# Altium footprint library Connector_Audio.PcbLib: 212 footprints (part 12 of 14)
Each footprint in its own frame and in the unit in brackets; x right, y up, seen from the top. Pads: shape width x height; smd on the part's side, far side on the other; paste and mask are expansions set on the pad; w line width, h text height; cw(c..) or ccw(c..) is an arc to the next point about the centre after c.
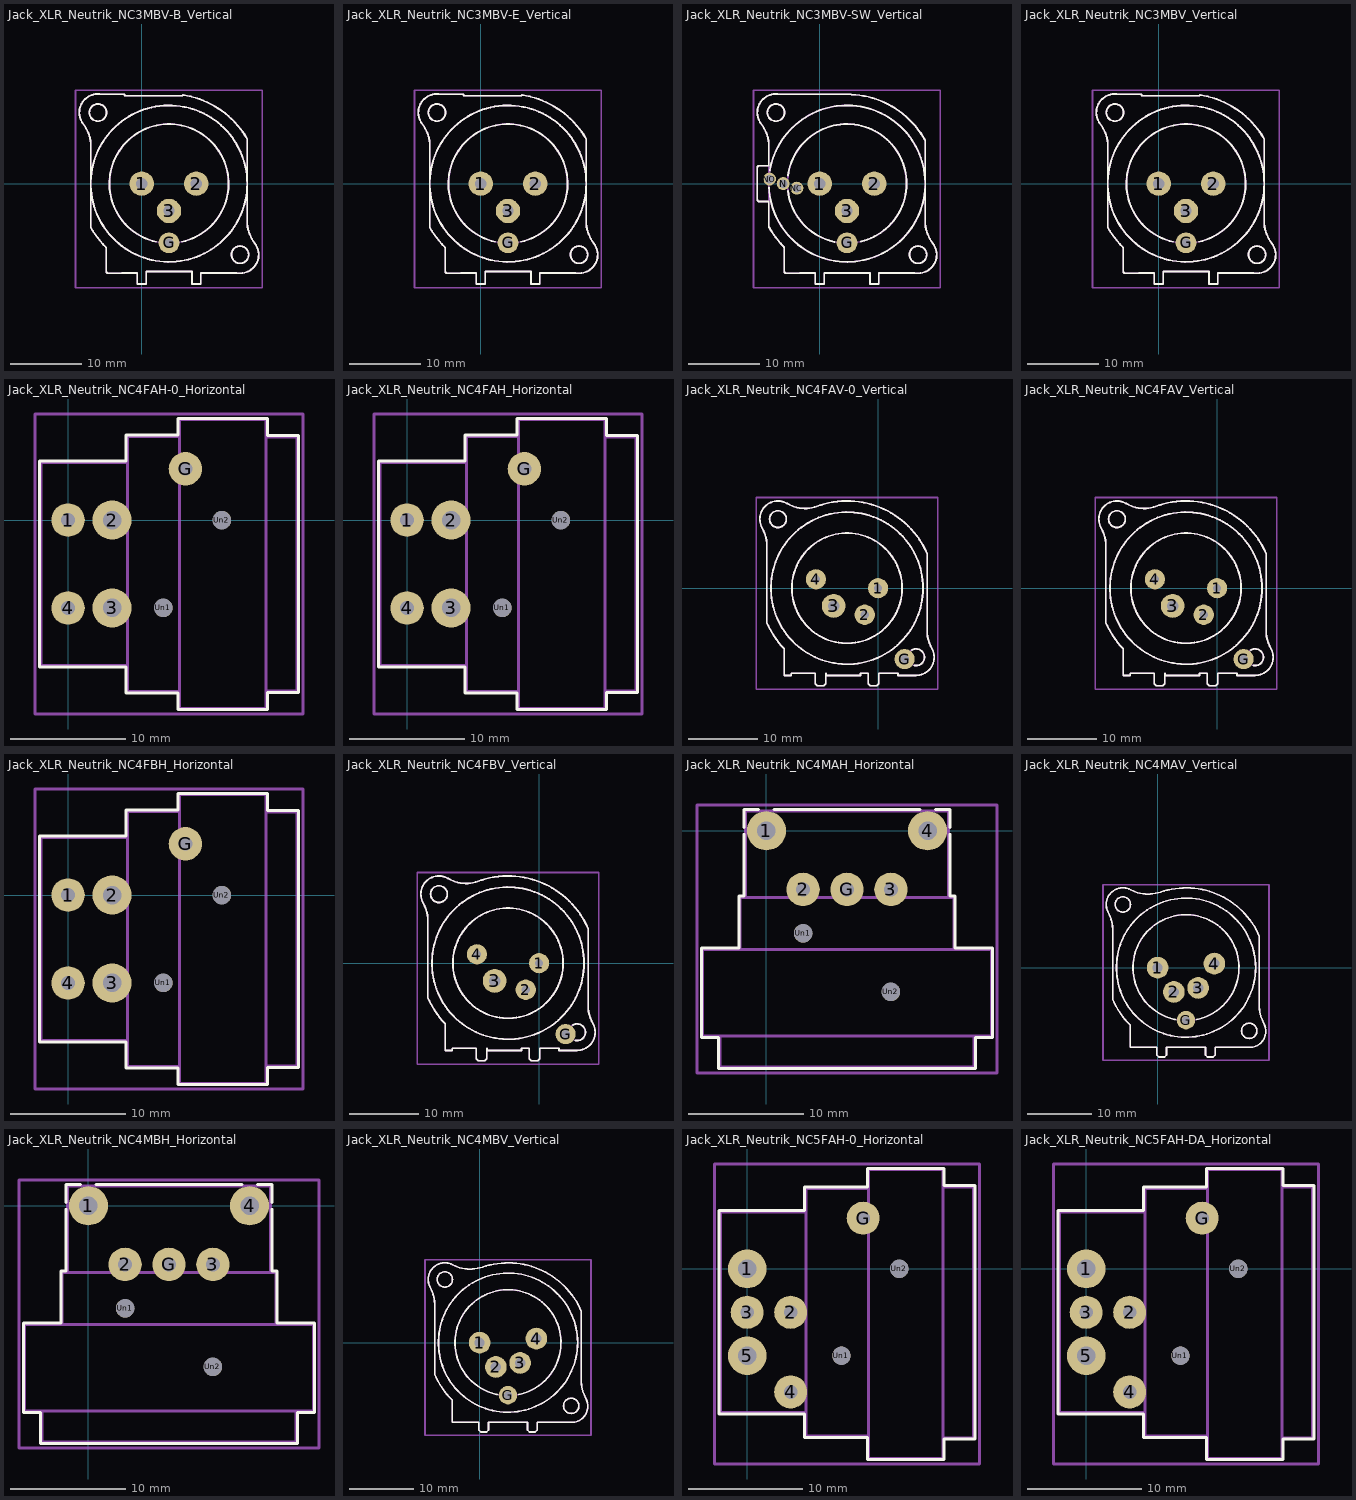
[diagram p11: the footprints below, top view; thin cyan lines are the x and y axes]

## Jack_XLR_Neutrik_NC3MBV-B_Vertical [mm]
pads (4):
  round 3.4 hole 1.6: 1(0,0) 2(7.62,0) 3(3.81,-3.81)
  round 2.9 hole 1.2: G(3.81,-8.25)
F.SilkS:
  circle w0.254: c13.71,-9.9 r1.2
  circle w0.254: c3.81,0 r10.9
  circle w0.254: c-6.09,9.9 r1.2
  lines w0.254: -8.145,8.311 cw(c-12.09,5.24) -7.09,5.24 -7.09,-6.11 ccw(c3.77,0.06) -5,-8.834 ; -8.141,8.308 cw(c-6.09,9.9) -5.6,12.45 -2.43,12.45 -2.32,12.25 5.68,12.25 5.74,12.35 ; -5,-8.832 cw(c-5.14,-8.975) -4.94,-8.98 -4.94,-12.2 ccw(c-4.64,-12.2) -4.64,-12.5 -2.74,-12.5 -2.74,-12.45 -0.62,-12.45 -0.62,-14 0.63,-14 0.63,-12.25 7,-12.25 7,-14 8.24,-14 8.24,-12.45 13.22,-12.45 ccw(c13.71,-9.9) 15.761,-8.308 ; 2,-8.1 cw(c3.81,0) 5.621,-8.1 ; 5.753,12.354 cw(c3.83,-0.06) 14.71,6.22 14.71,-5.24 ccw(c19.71,-5.24) 15.765,-8.311
Top Assembly:
  circle w0.254: c13.71,-9.9 r1.2
  circle w0.254: c3.81,0 r10.9
  circle w0.254: c3.81,0 r8.3
  circle w0.254: c-6.09,9.9 r1.2
  lines w0.254: -8.145,8.311 cw(c-12.09,5.24) -7.09,5.24 -7.09,-6.11 ccw(c3.77,0.06) -5,-8.834 ; -8.141,8.308 cw(c-6.09,9.9) -5.6,12.45 -2.43,12.45 -2.32,12.25 5.68,12.25 5.74,12.35 ; -5,-8.832 cw(c-5.14,-8.975) -4.94,-8.98 -4.94,-12.2 ccw(c-4.64,-12.2) -4.64,-12.5 -2.74,-12.5 -2.74,-12.45 -0.62,-12.45 -0.62,-14 0.63,-14 0.63,-12.25 7,-12.25 7,-14 8.24,-14 8.24,-12.45 13.22,-12.45 ccw(c13.71,-9.9) 15.761,-8.308 ; 5.753,12.354 cw(c3.83,-0.06) 14.71,6.22 14.71,-5.24 ccw(c19.71,-5.24) 15.765,-8.311
  text "'.Designator'" at -0.237,0.16 h1
Top Courtyard:
  lines w0.254: -9.2,-14.5 16.8,-14.5 16.8,13 -9.2,13 -9.2,-14.5
Top Designator:
  text ".Designator" at -3.818,-1.258 h1.52

## Jack_XLR_Neutrik_NC3MBV-E_Vertical [mm]
pads (4):
  round 3.4 hole 1.6: 1(0,0) 2(7.62,0) 3(3.81,-3.81)
  round 2.9 hole 1.2: G(3.81,-8.25)
F.SilkS:
  circle w0.254: c13.71,-9.9 r1.2
  circle w0.254: c3.81,0 r10.9
  circle w0.254: c-6.09,9.9 r1.2
  lines w0.254: -8.145,8.311 cw(c-12.09,5.24) -7.09,5.24 -7.09,-6.11 ccw(c3.77,0.06) -5,-8.834 ; -8.141,8.308 cw(c-6.09,9.9) -5.6,12.45 -2.43,12.45 -2.32,12.25 5.68,12.25 5.74,12.35 ; -5,-8.832 cw(c-5.14,-8.975) -4.94,-8.98 -4.94,-12.2 ccw(c-4.64,-12.2) -4.64,-12.5 -2.74,-12.5 -2.74,-12.45 -0.62,-12.45 -0.62,-14 0.63,-14 0.63,-12.25 7,-12.25 7,-14 8.24,-14 8.24,-12.45 13.22,-12.45 ccw(c13.71,-9.9) 15.761,-8.308 ; 2,-8.1 cw(c3.81,0) 5.621,-8.1 ; 5.753,12.354 cw(c3.83,-0.06) 14.71,6.22 14.71,-5.24 ccw(c19.71,-5.24) 15.765,-8.311
Top Assembly:
  circle w0.254: c13.71,-9.9 r1.2
  circle w0.254: c3.81,0 r10.9
  circle w0.254: c3.81,0 r8.3
  circle w0.254: c-6.09,9.9 r1.2
  lines w0.254: -8.145,8.311 cw(c-12.09,5.24) -7.09,5.24 -7.09,-6.11 ccw(c3.77,0.06) -5,-8.834 ; -8.141,8.308 cw(c-6.09,9.9) -5.6,12.45 -2.43,12.45 -2.32,12.25 5.68,12.25 5.74,12.35 ; -5,-8.832 cw(c-5.14,-8.975) -4.94,-8.98 -4.94,-12.2 ccw(c-4.64,-12.2) -4.64,-12.5 -2.74,-12.5 -2.74,-12.45 -0.62,-12.45 -0.62,-14 0.63,-14 0.63,-12.25 7,-12.25 7,-14 8.24,-14 8.24,-12.45 13.22,-12.45 ccw(c13.71,-9.9) 15.761,-8.308 ; 5.753,12.354 cw(c3.83,-0.06) 14.71,6.22 14.71,-5.24 ccw(c19.71,-5.24) 15.765,-8.311
  text "'.Designator'" at -0.237,0.16 h1
Top Courtyard:
  lines w0.254: -9.2,-14.5 16.8,-14.5 16.8,13 -9.2,13 -9.2,-14.5
Top Designator:
  text ".Designator" at -3.818,-1.258 h1.52

## Jack_XLR_Neutrik_NC3MBV-SW_Vertical [mm]
pads (7):
  round 3.4 hole 1.6: 1(0,0) 2(7.62,0) 3(3.81,-3.81)
  round 2.9 hole 1.2: G(3.81,-8.25)
  round 1.8 hole 1.2: N(-5.08,0) NC(-3.175,-0.635) NO(-6.985,0.635)
F.SilkS:
  circle w0.254: c13.71,-9.9 r1.2
  circle w0.254: c-6.09,9.9 r1.2
  lines w0.254: -8.145,8.311 cw(c-12.09,5.24) -7.09,5.24 -7.09,2.5 -8.39,2.5 ccw(c-8.39,2.2) -8.69,2.2 -8.69,-2.2 ccw(c-8.39,-2.2) -8.39,-2.5 -7.09,-2.5 -7.09,-5.96 ccw(c-6.84,-5.94) -7.049,-6.079 ; -8.141,8.308 cw(c-6.09,9.9) -5.6,12.45 3.81,12.45 ; -7.078,-0.512 ccw(c3.81,0) -6.94,1.8 ; -7.06,-6.06 ccw(c3.81,0) -5.015,-8.775 ; -5.008,-8.782 cw(c-5.175,-8.95) -4.94,-8.92 -4.94,-12.2 ccw(c-4.64,-12.2) -4.64,-12.5 -2.74,-12.5 -2.74,-12.45 -0.62,-12.45 -0.62,-14 0.63,-14 0.63,-12.45 7,-12.45 7,-14 8.24,-14 8.24,-12.45 13.22,-12.45 ccw(c13.71,-9.9) 15.761,-8.308 ; -4.431,-1.008 ccw(c3.81,0) 2.08,-8.12 ; -4.42,1.09 cw(c3.81,0) 5.742,-8.074 ; 3.793,12.45 cw(c3.81,0) 14.68,6.07 cw(c14.49,5.96) 14.71,5.96 14.71,-5.24 ccw(c19.71,-5.24) 15.765,-8.311
Top Assembly:
  circle w0.254: c13.71,-9.9 r1.2
  circle w0.254: c3.81,0 r10.9
  circle w0.254: c3.81,0 r8.3
  circle w0.254: c-6.09,9.9 r1.2
  lines w0.254: -8.145,8.311 cw(c-12.09,5.24) -7.09,5.24 -7.09,-5.96 ccw(c-6.84,-5.94) -7.049,-6.079 ; -8.141,8.308 cw(c-6.09,9.9) -5.6,12.45 3.81,12.45 ; -7.09,-2.5 -8.39,-2.5 cw(c-8.39,-2.2) -8.69,-2.2 -8.69,2.2 cw(c-8.39,2.2) -8.39,2.5 -7.09,2.5 ; -7.06,-6.06 ccw(c3.81,0) -5.015,-8.775 ; -5.008,-8.782 cw(c-5.175,-8.95) -4.94,-8.92 -4.94,-12.2 ccw(c-4.64,-12.2) -4.64,-12.5 -2.74,-12.5 -2.74,-12.45 -0.62,-12.45 -0.62,-14 0.63,-14 0.63,-12.45 7,-12.45 7,-14 8.24,-14 8.24,-12.45 13.22,-12.45 ccw(c13.71,-9.9) 15.761,-8.308 ; 3.793,12.45 cw(c3.81,0) 14.68,6.07 cw(c14.49,5.96) 14.71,5.96 14.71,-5.24 ccw(c19.71,-5.24) 15.765,-8.311
  text "'.Designator'" at -0.237,0.16 h1
Top Courtyard:
  lines w0.254: -9.2,-14.5 16.8,-14.5 16.8,13 -9.2,13 -9.2,-14.5
Top Designator:
  text ".Designator" at -3.818,-1.258 h1.52

## Jack_XLR_Neutrik_NC3MBV_Vertical [mm]
pads (4):
  round 3.4 hole 1.6: 1(0,0) 2(7.62,0) 3(3.81,-3.81)
  round 2.9 hole 1.2: G(3.81,-8.25)
F.SilkS:
  circle w0.254: c13.71,-9.9 r1.2
  circle w0.254: c3.81,0 r10.9
  circle w0.254: c-6.09,9.9 r1.2
  lines w0.254: -8.145,8.311 cw(c-12.09,5.24) -7.09,5.24 -7.09,-6.11 ccw(c3.77,0.06) -5,-8.834 ; -8.141,8.308 cw(c-6.09,9.9) -5.6,12.45 -2.43,12.45 -2.32,12.25 5.68,12.25 5.74,12.35 ; -5,-8.832 cw(c-5.14,-8.975) -4.94,-8.98 -4.94,-12.2 ccw(c-4.64,-12.2) -4.64,-12.5 -2.74,-12.5 -2.74,-12.45 -0.62,-12.45 -0.62,-14 0.63,-14 0.63,-12.25 7,-12.25 7,-14 8.24,-14 8.24,-12.45 13.22,-12.45 ccw(c13.71,-9.9) 15.761,-8.308 ; 2,-8.1 cw(c3.81,0) 5.621,-8.1 ; 5.753,12.354 cw(c3.83,-0.06) 14.71,6.22 14.71,-5.24 ccw(c19.71,-5.24) 15.765,-8.311
Top Assembly:
  circle w0.254: c13.71,-9.9 r1.2
  circle w0.254: c3.81,0 r10.9
  circle w0.254: c3.81,0 r8.3
  circle w0.254: c-6.09,9.9 r1.2
  lines w0.254: -8.145,8.311 cw(c-12.09,5.24) -7.09,5.24 -7.09,-6.11 ccw(c3.77,0.06) -5,-8.834 ; -8.141,8.308 cw(c-6.09,9.9) -5.6,12.45 -2.43,12.45 -2.32,12.25 5.68,12.25 5.74,12.35 ; -5,-8.832 cw(c-5.14,-8.975) -4.94,-8.98 -4.94,-12.2 ccw(c-4.64,-12.2) -4.64,-12.5 -2.74,-12.5 -2.74,-12.45 -0.62,-12.45 -0.62,-14 0.63,-14 0.63,-12.25 7,-12.25 7,-14 8.24,-14 8.24,-12.45 13.22,-12.45 ccw(c13.71,-9.9) 15.761,-8.308 ; 5.753,12.354 cw(c3.83,-0.06) 14.71,6.22 14.71,-5.24 ccw(c19.71,-5.24) 15.765,-8.311
  text "'.Designator'" at -0.237,0.16 h1
Top Courtyard:
  lines w0.254: -9.2,-14.5 16.8,-14.5 16.8,13 -9.2,13 -9.2,-14.5
Top Designator:
  text ".Designator" at -3.818,-1.258 h1.52

## Jack_XLR_Neutrik_NC4FAH-0_Horizontal [mm]
pads (7):
  round 2.9 hole 1.2: 1(0,0) 4(0,-7.62) G(10.17,4.44)
  round 3.4 hole 1.6: 2(3.815,0) 3(3.815,-7.62)
  round 1.6 hole 1.6: Un1(8.26,-7.62) Un2(13.34,0)
F.SilkS:
  lines w0.254: -2.47,-12.73 5.03,-12.73 5.03,-14.98 9.53,-14.98 9.53,-16.43 17.27,-16.43 17.27,-14.93 19.97,-14.93 19.97,7.31 17.27,7.31 17.27,8.81 9.53,8.81 9.53,7.36 5.03,7.36 5.03,5.11 -2.47,5.11 -2.47,-12.73
Top Assembly:
  lines w0.254: 5.15,-12.61 -2.35,-12.61 -2.35,4.99 5.15,4.99 ; 9.65,-14.86 5.15,-14.86 5.15,7.24 9.65,7.24 ; 17.15,-14.81 19.85,-14.81 19.85,7.19 17.15,7.19 ; 9.65,-16.31 17.15,-16.31 17.15,8.69 9.65,8.69 9.65,-16.31
  text "'.Designator'" at 10.753,-4.65 h1
Top Courtyard:
  lines w0.254: -2.85,-16.81 20.35,-16.81 20.35,9.19 -2.85,9.19 -2.85,-16.81
Top Designator:
  text ".Designator" at 1.132,-4.318 h1.52
Dwgs.User:
  lines w0.254: 17.15,-16.31 17.15,8.69

## Jack_XLR_Neutrik_NC4FAH_Horizontal [mm]
pads (7):
  round 2.9 hole 1.2: 1(0,0) 4(0,-7.62) G(10.17,4.44)
  round 3.4 hole 1.6: 2(3.815,0) 3(3.815,-7.62)
  round 1.6 hole 1.6: Un1(8.26,-7.62) Un2(13.34,0)
F.SilkS:
  lines w0.254: -2.47,-12.73 5.03,-12.73 5.03,-14.98 9.53,-14.98 9.53,-16.43 17.27,-16.43 17.27,-14.93 19.97,-14.93 19.97,7.31 17.27,7.31 17.27,8.81 9.53,8.81 9.53,7.36 5.03,7.36 5.03,5.11 -2.47,5.11 -2.47,-12.73
Top Assembly:
  lines w0.254: 5.15,-12.61 -2.35,-12.61 -2.35,4.99 5.15,4.99 ; 9.65,-14.86 5.15,-14.86 5.15,7.24 9.65,7.24 ; 17.15,-14.81 19.85,-14.81 19.85,7.19 17.15,7.19 ; 9.65,-16.31 17.15,-16.31 17.15,8.69 9.65,8.69 9.65,-16.31
  text "'.Designator'" at 10.753,-4.65 h1
Top Courtyard:
  lines w0.254: -2.85,-16.81 20.35,-16.81 20.35,9.19 -2.85,9.19 -2.85,-16.81
Top Designator:
  text ".Designator" at 1.132,-4.318 h1.52
Dwgs.User:
  lines w0.254: 17.15,-16.31 17.15,8.69

## Jack_XLR_Neutrik_NC4FAV-0_Vertical [mm]
pads (5):
  round 2.9 hole 1.2: 1(0,0) 2(-1.91,-3.81) 4(-8.9,1.27) G(3.805,-10.16)
  round 3.4 hole 1.6: 3(-6.355,-2.54)
F.SilkS:
  circle w0.254: c-4.45,0 r10.9
  circle w0.254: c-4.45,0 r7.9
  circle w0.254: c-14.35,9.9 r1.2
  lines w0.254: -16.606,8.614 cw(c-14.35,9.9) -13.02,12.13 ccw(c-10.47,16.43) -8.766,11.73 ; -16.602,8.609 cw(c-20.95,6.14) -15.95,6.13 -15.95,-4.9 ccw(c-4.45,0) -13.46,-8.664 ; -13.45,-8.68 -13.45,-12.5 -12.45,-12.5 -12.45,-12.2 -9,-12.2 -9,-13.7 -8.71,-14 -7.81,-14 -7.5,-13.7 -7.5,-12.2 -7.41,-12.2 -7.41,-12.5 -2.5,-12.5 -2.5,-12.2 -1.39,-12.2 -1.39,-13.7 -1.1,-14 -0.19,-14 0.11,-13.7 0.11,-12.2 2.85,-12.2 2.85,-12.5 5.45,-12.5 ccw(c5.45,-9.9) 7.708,-8.612 ; -8.782,11.726 cw(c-4.45,0) 7.05,4.9 7.05,-6.13 ccw(c12.05,-6.13) 7.707,-8.607 ; 4.868,-8.848 cw(c5.45,-9.9) 5.22,-11.08
Top Assembly:
  circle w0.254: c5.45,-9.9 r1.2
  circle w0.254: c-4.45,0 r10.9
  circle w0.254: c-4.45,0 r7.9
  circle w0.254: c-14.35,9.9 r1.2
  lines w0.254: -16.606,8.614 cw(c-14.35,9.9) -13.02,12.13 ccw(c-10.47,16.43) -8.766,11.73 ; -16.602,8.609 cw(c-20.95,6.14) -15.95,6.13 -15.95,-4.9 ccw(c-4.45,0) -13.46,-8.664 ; -13.45,-8.68 -13.45,-12.5 -12.45,-12.5 -12.45,-12.2 -9,-12.2 -9,-13.7 -8.71,-14 -7.81,-14 -7.5,-13.7 -7.5,-12.2 -7.41,-12.2 -7.41,-12.5 -2.5,-12.5 -2.5,-12.2 -1.39,-12.2 -1.39,-13.7 -1.1,-14 -0.19,-14 0.11,-13.7 0.11,-12.2 2.85,-12.2 2.85,-12.5 5.45,-12.5 ccw(c5.45,-9.9) 7.708,-8.612 ; -8.782,11.726 cw(c-4.45,0) 7.05,4.9 7.05,-6.13 ccw(c12.05,-6.13) 7.707,-8.607
  text "'.Designator'" at -8.497,0.16 h1
Top Courtyard:
  lines w0.254: -17.45,-14.5 8.55,-14.5 8.55,13 -17.45,13 -17.45,-14.5
Top Designator:
  text ".Designator" at -12.068,-1.258 h1.52

## Jack_XLR_Neutrik_NC4FAV_Vertical [mm]
pads (5):
  round 2.9 hole 1.2: 1(0,0) 2(-1.91,-3.81) 4(-8.9,1.27) G(3.805,-10.16)
  round 3.4 hole 1.6: 3(-6.355,-2.54)
F.SilkS:
  circle w0.254: c-14.35,9.9 r1.2
  circle w0.254: c-4.45,0 r7.9
  circle w0.254: c-4.45,0 r10.9
  lines w0.254: -16.606,8.614 cw(c-14.35,9.9) -13.02,12.13 ccw(c-10.47,16.43) -8.766,11.73 ; -16.602,8.609 cw(c-20.95,6.14) -15.95,6.13 -15.95,-4.9 ccw(c-4.45,0) -13.46,-8.664 ; -13.45,-8.68 -13.45,-12.5 -12.45,-12.5 -12.45,-12.2 -9,-12.2 -9,-13.7 -8.71,-14 -7.81,-14 -7.5,-13.7 -7.5,-12.2 -7.41,-12.2 -7.41,-12.5 -2.5,-12.5 -2.5,-12.2 -1.39,-12.2 -1.39,-13.7 -1.1,-14 -0.19,-14 0.11,-13.7 0.11,-12.2 2.85,-12.2 2.85,-12.5 5.45,-12.5 ccw(c5.45,-9.9) 7.708,-8.612 ; -8.782,11.726 cw(c-4.45,0) 7.05,4.9 7.05,-6.13 ccw(c12.05,-6.13) 7.707,-8.607 ; 4.868,-8.848 cw(c5.45,-9.9) 5.22,-11.08
Top Assembly:
  circle w0.254: c-14.35,9.9 r1.2
  circle w0.254: c-4.45,0 r7.9
  circle w0.254: c-4.45,0 r10.9
  circle w0.254: c5.45,-9.9 r1.2
  lines w0.254: -16.606,8.614 cw(c-14.35,9.9) -13.02,12.13 ccw(c-10.47,16.43) -8.766,11.73 ; -16.602,8.609 cw(c-20.95,6.14) -15.95,6.13 -15.95,-4.9 ccw(c-4.45,0) -13.46,-8.664 ; -13.45,-8.68 -13.45,-12.5 -12.45,-12.5 -12.45,-12.2 -9,-12.2 -9,-13.7 -8.71,-14 -7.81,-14 -7.5,-13.7 -7.5,-12.2 -7.41,-12.2 -7.41,-12.5 -2.5,-12.5 -2.5,-12.2 -1.39,-12.2 -1.39,-13.7 -1.1,-14 -0.19,-14 0.11,-13.7 0.11,-12.2 2.85,-12.2 2.85,-12.5 5.45,-12.5 ccw(c5.45,-9.9) 7.708,-8.612 ; -8.782,11.726 cw(c-4.45,0) 7.05,4.9 7.05,-6.13 ccw(c12.05,-6.13) 7.707,-8.607
  text "'.Designator'" at -8.497,0.16 h1
Top Courtyard:
  lines w0.254: -17.45,-14.5 -17.45,13 8.55,13 8.55,-14.5 -17.45,-14.5
Top Designator:
  text ".Designator" at -12.068,-1.258 h1.52

## Jack_XLR_Neutrik_NC4FBH_Horizontal [mm]
pads (7):
  round 2.9 hole 1.2: 1(0,0) 4(0,-7.62) G(10.17,4.44)
  round 3.4 hole 1.6: 2(3.815,0) 3(3.815,-7.62)
  round 1.6 hole 1.6: Un1(8.26,-7.62) Un2(13.34,0)
F.SilkS:
  lines w0.254: -2.47,-12.73 5.03,-12.73 5.03,-14.98 9.53,-14.98 9.53,-16.43 17.27,-16.43 17.27,-14.93 19.97,-14.93 19.97,7.31 17.27,7.31 17.27,8.81 9.53,8.81 9.53,7.36 5.03,7.36 5.03,5.11 -2.47,5.11 -2.47,-12.73
Top Assembly:
  lines w0.254: 5.15,-12.61 -2.35,-12.61 -2.35,4.99 5.15,4.99 ; 9.65,-14.86 5.15,-14.86 5.15,7.24 9.65,7.24 ; 17.15,-14.81 19.85,-14.81 19.85,7.19 17.15,7.19 ; 9.65,-16.31 17.15,-16.31 17.15,8.69 9.65,8.69 9.65,-16.31
  text "'.Designator'" at 10.753,-4.65 h1
Top Courtyard:
  lines w0.254: -2.85,-16.81 20.35,-16.81 20.35,9.19 -2.85,9.19 -2.85,-16.81
Top Designator:
  text ".Designator" at 1.132,-4.318 h1.52
Dwgs.User:
  lines w0.254: 17.15,-16.31 17.15,8.69

## Jack_XLR_Neutrik_NC4FBV_Vertical [mm]
pads (5):
  round 2.9 hole 1.2: 1(0,0) 2(-1.91,-3.81) 4(-8.9,1.27) G(3.805,-10.16)
  round 3.4 hole 1.6: 3(-6.355,-2.54)
F.SilkS:
  circle w0.254: c-4.45,0 r10.9
  circle w0.254: c-4.45,0 r7.9
  circle w0.254: c-14.35,9.9 r1.2
  lines w0.254: -16.606,8.614 cw(c-14.35,9.9) -13.02,12.13 ccw(c-10.47,16.43) -8.766,11.73 ; -16.602,8.609 cw(c-20.95,6.14) -15.95,6.13 -15.95,-4.9 ccw(c-4.45,0) -13.46,-8.664 ; -13.45,-8.68 -13.45,-12.5 -12.45,-12.5 -12.45,-12.2 -9,-12.2 -9,-13.7 -8.71,-14 -7.81,-14 -7.5,-13.7 -7.5,-12.2 -7.41,-12.2 -7.41,-12.5 -2.5,-12.5 -2.5,-12.2 -1.39,-12.2 -1.39,-13.7 -1.1,-14 -0.19,-14 0.11,-13.7 0.11,-12.2 2.85,-12.2 2.85,-12.5 5.45,-12.5 ccw(c5.45,-9.9) 7.708,-8.612 ; -8.782,11.726 cw(c-4.45,0) 7.05,4.9 7.05,-6.13 ccw(c12.05,-6.13) 7.707,-8.607 ; 4.868,-8.848 cw(c5.45,-9.9) 5.22,-11.08
Top Assembly:
  circle w0.254: c5.45,-9.9 r1.2
  circle w0.254: c-4.45,0 r10.9
  circle w0.254: c-4.45,0 r7.9
  circle w0.254: c-14.35,9.9 r1.2
  lines w0.254: -16.606,8.614 cw(c-14.35,9.9) -13.02,12.13 ccw(c-10.47,16.43) -8.766,11.73 ; -16.602,8.609 cw(c-20.95,6.14) -15.95,6.13 -15.95,-4.9 ccw(c-4.45,0) -13.46,-8.664 ; -16.58,8.57 cw(c-14.35,9.905) -12.736,11.942 ; -13.45,-8.68 -13.45,-12.5 -12.45,-12.5 -12.45,-12.2 -9,-12.2 -9,-13.7 -8.71,-14 -7.81,-14 -7.5,-13.7 -7.5,-12.2 -7.41,-12.2 -7.41,-12.5 -2.5,-12.5 -2.5,-12.2 -1.39,-12.2 -1.39,-13.7 -1.1,-14 -0.19,-14 0.11,-13.7 0.11,-12.2 2.85,-12.2 2.85,-12.5 5.45,-12.5 ccw(c5.45,-9.9) 7.708,-8.612 ; -8.782,11.726 cw(c-4.45,0) 7.05,4.9 7.05,-6.13 ccw(c12.05,-6.13) 7.707,-8.607 ; 5.448,-12.5 ccw(c5.45,-9.895) 7.66,-8.516
  text "'.Designator'" at -8.497,0.16 h1
Top Courtyard:
  lines w0.254: -17.45,-14.5 8.55,-14.5 8.55,13 -17.45,13 -17.45,-14.5
Top Designator:
  text ".Designator" at -12.068,-1.258 h1.52

## Jack_XLR_Neutrik_NC4MAH_Horizontal [mm]
pads (7):
  round 3.4 hole 1.6: 1(0,0) 4(13.96,0)
  round 2.9 hole 1.2: 2(3.17,-5.08) 3(10.79,-5.08) G(6.98,-5.08)
  round 1.6 hole 1.6: Un1(3.17,-8.89) Un2(10.79,-13.97)
F.SilkS:
  lines w0.254: -1.94,-0.3 -1.94,-5.66 -2.39,-5.66 -2.39,-10.16 -5.64,-10.16 -5.64,-17.9 -4.14,-17.9 -4.14,-20.6 18.1,-20.6 18.1,-17.9 19.6,-17.9 19.6,-10.16 16.35,-10.16 16.35,-5.66 15.9,-5.66 15.9,-0.3 ; -1.94,0.3 -1.94,1.84 -0.7,1.84 ; 0.66,1.84 13.3,1.84 ; 14.66,1.84 15.9,1.84 15.9,0.3
Top Assembly:
  lines w0.254: -4.02,-17.78 -4.02,-20.48 17.98,-20.48 17.98,-17.78 ; -2.27,-10.28 -2.27,-5.78 16.23,-5.78 16.23,-10.28 ; -1.82,-5.78 -1.82,1.72 15.78,1.72 15.78,-5.78 ; -5.52,-17.78 19.48,-17.78 19.48,-10.28 -5.52,-10.28 -5.52,-17.78
  text "'.Designator'" at 2.933,-16.27 h1
Top Courtyard:
  lines w0.254: -6.02,-20.98 19.98,-20.98 19.98,2.22 -6.02,2.22 -6.02,-20.98
Top Designator:
  text ".Designator" at -0.638,-9.888 h1.52
Dwgs.User:
  lines w0.254: -5.52,-17.78 19.48,-17.78

## Jack_XLR_Neutrik_NC4MAV_Vertical [mm]
pads (5):
  round 3.4 hole 1.6: 1(0,0) 2(2.54,-3.81) 3(6.35,-3.175) 4(8.89,0.635)
  round 2.9 hole 1.2: G(4.445,-8.225)
F.SilkS:
  circle w0.254: c14.35,-9.9 r1.2
  circle w0.254: c4.445,0 r10.9
  circle w0.254: c-5.45,9.9 r1.2
  lines w0.254: -7.729,8.642 cw(c-13.05,5.86) -7.05,6.08 -7.05,-4.95 ccw(c4.445,-0.05) -4.3,-8.976 ; -7.726,8.636 cw(c-5.45,9.9) -4.25,12.21 ccw(c-1.47,17.5) 0.434,11.835 ; -4.3,-8.98 -4.3,-12.5 -0.11,-12.5 -0.11,-13.7 0.19,-14 1.09,-14 1.39,-13.7 1.39,-12.5 7.5,-12.5 7.5,-13.7 7.8,-14 8.7,-14 9,-13.7 9,-12.5 14.45,-12.5 ccw(c14.45,-9.9) 15.559,-12.252 ; 0.441,11.837 cw(c4.445,0) 15.94,4.9 15.94,-6.18 ccw(c21.94,-5.91) 16.597,-8.653 ; 2.735,-8.12 cw(c4.445,0) 6.143,-8.123 ; 15.56,-12.25 ccw(c14.34,-9.95) 16.598,-8.654
Top Assembly:
  circle w0.254: c14.35,-9.9 r1.2
  circle w0.254: c4.445,0 r10.9
  circle w0.254: c4.445,0 r8.3
  circle w0.254: c-5.45,9.9 r1.2
  lines w0.254: -7.729,8.642 cw(c-13.05,5.86) -7.05,6.08 -7.05,-4.95 ccw(c4.445,-0.05) -4.3,-8.976 ; -7.726,8.636 cw(c-5.45,9.9) -4.25,12.21 ccw(c-1.47,17.5) 0.434,11.835 ; -4.3,-8.98 -4.3,-12.5 -0.11,-12.5 -0.11,-13.7 0.19,-14 1.09,-14 1.39,-13.7 1.39,-12.5 7.5,-12.5 7.5,-13.7 7.8,-14 8.7,-14 9,-13.7 9,-12.5 14.45,-12.5 ccw(c14.45,-9.9) 15.559,-12.252 ; 0.441,11.837 cw(c4.445,0) 15.94,4.9 15.94,-6.18 ccw(c21.94,-5.91) 16.597,-8.653 ; 15.56,-12.25 ccw(c14.34,-9.95) 16.598,-8.654
  text "'.Designator'" at 0.398,0.16 h1
Top Courtyard:
  lines w0.254: -8.55,-14.5 17.45,-14.5 17.45,13 -8.55,13 -8.55,-14.5
Top Designator:
  text ".Designator" at -3.168,-1.258 h1.52

## Jack_XLR_Neutrik_NC4MBH_Horizontal [mm]
pads (7):
  round 3.4 hole 1.6: 1(0,0) 4(13.96,0)
  round 2.9 hole 1.2: 2(3.17,-5.08) 3(10.79,-5.08) G(6.98,-5.08)
  round 1.6 hole 1.6: Un1(3.17,-8.89) Un2(10.79,-13.97)
F.SilkS:
  lines w0.254: -1.94,-0.3 -1.94,-5.66 -2.39,-5.66 -2.39,-10.16 -5.64,-10.16 -5.64,-17.9 -4.14,-17.9 -4.14,-20.6 18.1,-20.6 18.1,-17.9 19.6,-17.9 19.6,-10.16 16.35,-10.16 16.35,-5.66 15.9,-5.66 15.9,-0.3 ; -1.94,0.3 -1.94,1.84 -0.7,1.84 ; 0.66,1.84 13.3,1.84 ; 14.66,1.84 15.9,1.84 15.9,0.3
Top Assembly:
  lines w0.254: -4.02,-17.78 -4.02,-20.48 17.98,-20.48 17.98,-17.78 ; -2.27,-10.28 -2.27,-5.78 16.23,-5.78 16.23,-10.28 ; -1.82,-5.78 -1.82,1.72 15.78,1.72 15.78,-5.78 ; -5.52,-17.78 19.48,-17.78 19.48,-10.28 -5.52,-10.28 -5.52,-17.78
  text "'.Designator'" at 2.933,-16.27 h1
Top Courtyard:
  lines w0.254: -6.02,-20.98 19.98,-20.98 19.98,2.22 -6.02,2.22 -6.02,-20.98
Top Designator:
  text ".Designator" at -0.638,-9.888 h1.52
Dwgs.User:
  lines w0.254: -5.52,-17.78 19.48,-17.78

## Jack_XLR_Neutrik_NC4MBV_Vertical [mm]
pads (5):
  round 3.4 hole 1.6: 1(0,0) 2(2.54,-3.81) 3(6.35,-3.175) 4(8.89,0.635)
  round 2.9 hole 1.2: G(4.445,-8.225)
F.SilkS:
  circle w0.254: c14.35,-9.9 r1.2
  circle w0.254: c4.445,0 r10.9
  circle w0.254: c-5.45,9.9 r1.2
  lines w0.254: -7.729,8.642 cw(c-13.05,5.86) -7.05,6.08 -7.05,-4.95 ccw(c4.445,-0.05) -4.3,-8.976 ; -7.726,8.636 cw(c-5.45,9.9) -4.25,12.21 ccw(c-1.47,17.5) 0.434,11.835 ; -4.3,-8.98 -4.3,-12.5 -0.11,-12.5 -0.11,-13.7 0.19,-14 1.09,-14 1.39,-13.7 1.39,-12.5 7.5,-12.5 7.5,-13.7 7.8,-14 8.7,-14 9,-13.7 9,-12.5 14.45,-12.5 ccw(c14.45,-9.9) 15.559,-12.252 ; 0.441,11.837 cw(c4.445,0) 15.94,4.9 15.94,-6.18 ccw(c21.94,-5.91) 16.597,-8.653 ; 2.735,-8.12 cw(c4.445,0) 6.143,-8.123 ; 15.56,-12.25 ccw(c14.34,-9.95) 16.598,-8.654
Top Assembly:
  circle w0.254: c14.35,-9.9 r1.2
  circle w0.254: c4.445,0 r10.9
  circle w0.254: c4.445,0 r8.3
  circle w0.254: c-5.45,9.9 r1.2
  lines w0.254: -7.729,8.642 cw(c-13.05,5.86) -7.05,6.08 -7.05,-4.95 ccw(c4.445,-0.05) -4.3,-8.976 ; -7.726,8.636 cw(c-5.45,9.9) -4.25,12.21 ccw(c-1.47,17.5) 0.434,11.835 ; -7.685,8.57 cw(c-5.455,9.905) -3.841,11.942 ; -4.3,-8.98 -4.3,-12.5 -0.11,-12.5 -0.11,-13.7 0.19,-14 1.09,-14 1.39,-13.7 1.39,-12.5 7.5,-12.5 7.5,-13.7 7.8,-14 8.7,-14 9,-13.7 9,-12.5 14.45,-12.5 ccw(c14.45,-9.9) 15.559,-12.252 ; 0.441,11.837 cw(c4.445,0) 15.94,4.9 15.94,-6.18 ccw(c21.94,-5.91) 16.597,-8.653 ; 14.343,-12.5 ccw(c14.345,-9.895) 16.555,-8.516 ; 15.56,-12.25 ccw(c14.34,-9.95) 16.598,-8.654
  text "'.Designator'" at 0.398,0.16 h1
Top Courtyard:
  lines w0.254: -8.55,-14.5 17.45,-14.5 17.45,13 -8.55,13 -8.55,-14.5
Top Designator:
  text ".Designator" at -3.168,-1.258 h1.52

## Jack_XLR_Neutrik_NC5FAH-0_Horizontal [mm]
pads (8):
  round 3.4 hole 1.6: 1(0,0) 5(0,-7.62)
  round 2.9 hole 1.2: 2(3.815,-3.81) 3(0,-3.81) 4(3.815,-10.79) G(10.17,4.44)
  round 1.6 hole 1.6: Un1(8.26,-7.62) Un2(13.34,0)
F.SilkS:
  lines w0.254: -2.47,-12.73 5.03,-12.73 5.03,-14.78 10.53,-14.78 10.53,-16.73 17.27,-16.73 17.27,-14.93 19.97,-14.93 19.97,7.31 17.27,7.31 17.27,8.81 10.53,8.81 10.53,7.16 5.03,7.16 5.03,5.11 -2.47,5.11 -2.47,-12.73
Top Assembly:
  lines w0.254: 5.15,-12.61 -2.35,-12.61 -2.35,4.99 5.15,4.99 ; 10.65,-14.66 5.15,-14.66 5.15,7.04 10.65,7.04 ; 17.15,-14.81 19.85,-14.81 19.85,7.19 17.15,7.19 ; 10.65,-16.61 17.15,-16.61 17.15,8.69 10.65,8.69 10.65,-16.61
  text "'.Designator'" at 10.753,-4.65 h1
Top Courtyard:
  lines w0.254: -2.85,-17.11 20.35,-17.11 20.35,9.19 -2.85,9.19 -2.85,-17.11
Top Designator:
  text ".Designator" at 1.132,-4.468 h1.52
Dwgs.User:
  lines w0.254: 17.15,-16.61 17.15,8.69

## Jack_XLR_Neutrik_NC5FAH-DA_Horizontal [mm]
pads (8):
  round 3.4 hole 1.6: 1(0,0) 5(0,-7.62)
  round 2.9 hole 1.2: 2(3.815,-3.81) 3(0,-3.81) 4(3.815,-10.79) G(10.17,4.44)
  round 1.6 hole 1.6: Un1(8.26,-7.62) Un2(13.34,0)
F.SilkS:
  lines w0.254: -2.47,-12.73 5.03,-12.73 5.03,-14.78 10.53,-14.78 10.53,-16.73 17.27,-16.73 17.27,-14.93 19.97,-14.93 19.97,7.31 17.27,7.31 17.27,8.81 10.53,8.81 10.53,7.16 5.03,7.16 5.03,5.11 -2.47,5.11 -2.47,-12.73
Top Assembly:
  lines w0.254: 5.15,-12.61 -2.35,-12.61 -2.35,4.99 5.15,4.99 ; 10.65,-14.66 5.15,-14.66 5.15,7.04 10.65,7.04 ; 17.15,-14.81 19.85,-14.81 19.85,7.19 17.15,7.19 ; 10.65,-16.61 17.15,-16.61 17.15,8.69 10.65,8.69 10.65,-16.61
  text "'.Designator'" at 10.753,-4.65 h1
Top Courtyard:
  lines w0.254: -2.85,-17.11 20.35,-17.11 20.35,9.19 -2.85,9.19 -2.85,-17.11
Top Designator:
  text ".Designator" at 1.132,-4.468 h1.52
Dwgs.User:
  lines w0.254: 17.15,-16.61 17.15,8.69